# Altium schematic symbol library PREC010SAAN-RC.SchLib: 1 symbol
Pins are listed as number, name and electrical type; pins without a type are passive.

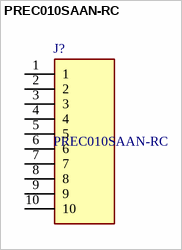
[diagram p0: symbol PREC010SAAN-RC]

## PREC010SAAN-RC
designator J?
HEADER MALE .100" PITCH, STRAIGHT; Manufacturer_Name: Sullins; Geometry.Height: 8.34mm; Manufacturer_Part_Number: PREC010SAAN-RC; Mouser Part Number: *; Mouser Price/Stock: *; Arrow Part Number: *; Arrow Price/Stock: *; Datasheet Link: http://media.digikey.com/PDF/Data%20Sheets/Sullins%20PDFs/z%20RzCzzzSzzN-RC,%20ST,11635-B.pdf
footprint HDRV10W64P0X254_1X10_2540X254X834P
pins: 1, 2, 3, 4, 5, 6, 7, 8, 9, 10